# Altium footprint library CAP-FILM-22.5X26.5X10.PcbLib: 1 footprints
Each footprint in its own frame and in the unit in brackets; x right, y up, seen from the top. Pads: shape width x height; smd on the part's side, far side on the other; paste and mask are expansions set on the pad; w line width, h text height; cw(c..) or ccw(c..) is an arc to the next point about the centre after c.
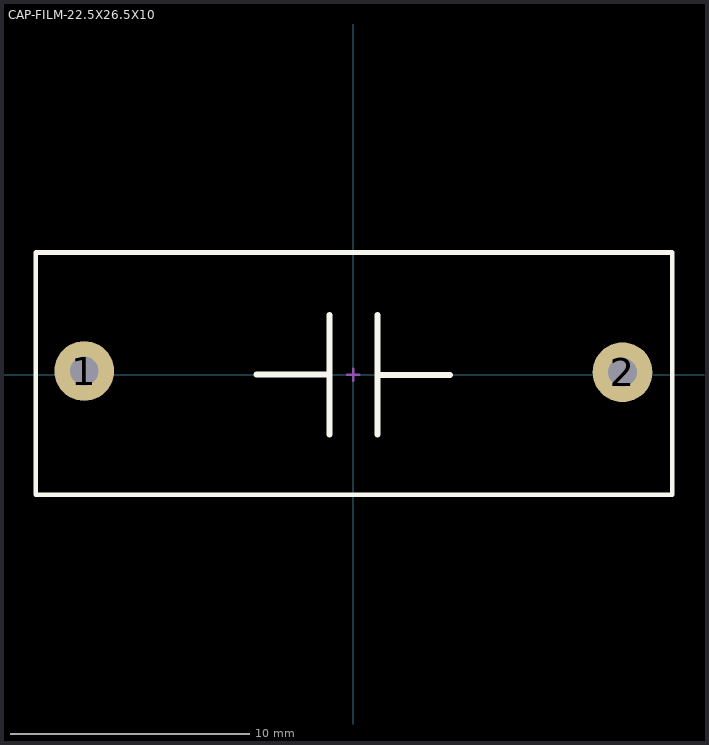
[diagram p0: the footprint, top view; thin cyan lines are the x and y axes]

## CAP-FILM-22.5X26.5X10 [mm]
height 0.95
pads (2):
  round 2.5 hole 1.2: 1(-11.25,0.15) 2(11.25,0.1)
Top Overlay:
  lines w0.2: -13.275,-5.025 -13.275,5.1 13.325,5.1 13.325,-5.025 -13.275,-5.025
  lines w0.254: -4.046,0.002 -1.046,0.002 ; -1.001,-1.666 -1.001,1.334 ; -1,-2.5 -1,2.5 ; 1,-2.5 1,2.5 ; 1.029,-0.023 4.029,-0.023
Top Assembly:
  lines w0.1: -0.25,0 0.25,0 ; 0,-0.25 0,0.25 ; -13.275,-5.05 13.3,-5.05 13.3,5.1 -13.275,5.1 -13.275,-5.05
  text "'.Designator'" at 0,0 h0.7
3D body "User Library-FILM_GREY_P2250L2650W1000H1850PD80.STEP": height 18.5, standoff -5, extent -13.25,-5 13.25,5